# EAGLE library part INTRCNNT (library Keys)
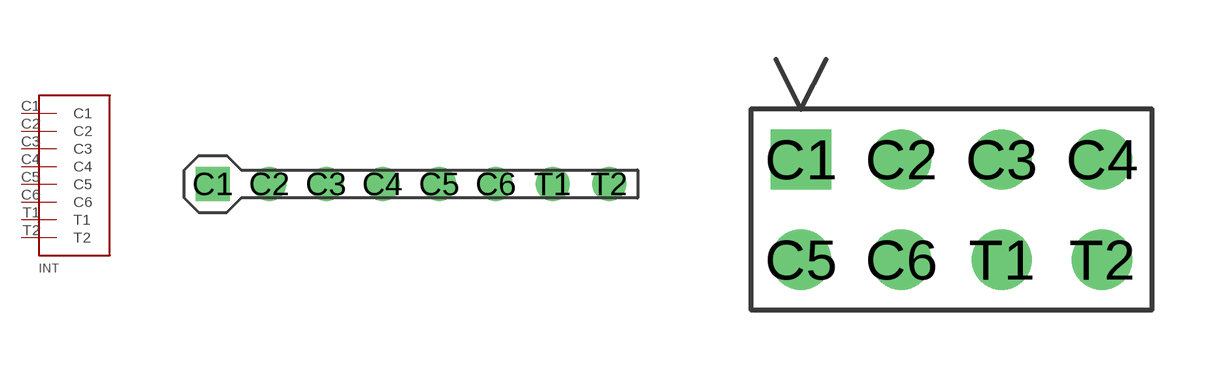
[diagram p1: symbol with the pads of INTRCNNT; footprints INTRCNNT, INTRRIBBON]

Designator prefix INT

## INTRCNNT1X8  [INTRCNNT]
C1  C1
C2  C2
C3  C3
C4  C4
C5  C5
C6  C6
T1  T1
T2  T2

## INTRCNNT4X2  [INTRRIBBON]
Pads as for INTRCNNT

## Footprint INTRCNNT (pad centres in mm)
drill 1.016 square: C1 0,0
drill 1.016: C2 2.54,0; C3 5.08,0; C4 7.62,0; C5 10.16,0; C6 12.7,0; T1 15.24,0; T2 17.78,0

## Footprint INTRRIBBON (pad centres in mm)
drill 1.016 square: C1 0,0
drill 1.016: C2 2.54,0; C3 5.08,0; C4 7.62,0; C5 0,-2.54; C6 2.54,-2.54; T1 5.08,-2.54; T2 7.62,-2.54